# EAGLE library part LRTB_GVTG-U5V5-1 (library issi)
Osram LRTB GVTG RGB MULTILED Source: http://www.osram-os.com/Graphics/XPic9/00155765_0.pdf/LRTB%20GVTG%20-%20MULTILED.pdf
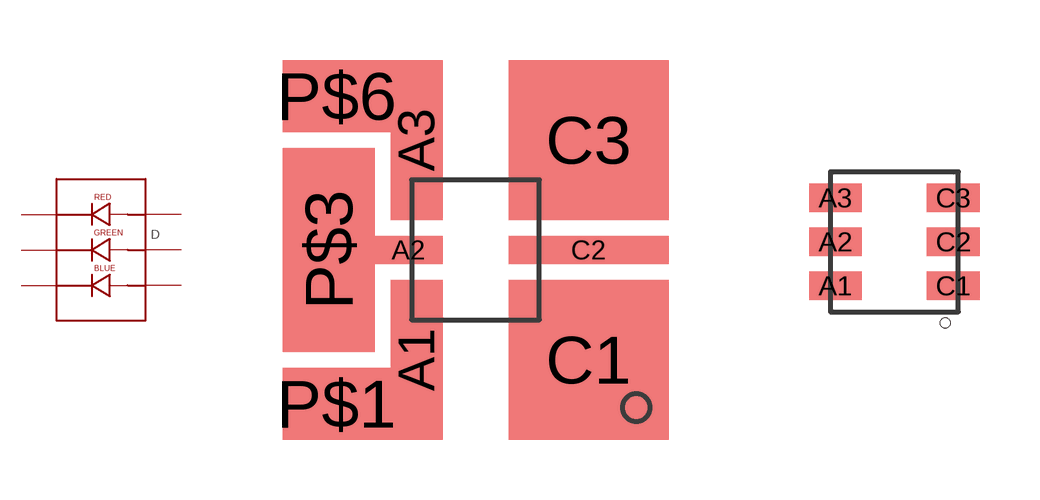
[diagram p0: symbol with the pads of LPCC6; footprints LPCC6, LPCC6SMALL]

Designator prefix D

## LRTB_GVTG-U5V5-1LPCC6  [LPCC6]
A1  BLUE_ANODE
A2  GREEN_ANODE
A3  RED_ANODE
C1  BLUE_CATHODE
C2  GREEN_CATHODE
C3  RED_CATHODE

## LRTB_GVTG-U5V5-1LPCC6SMALL  [LPCC6SMALL]
Pads as for LPCC6

## Footprint LPCC6 (pad centres in mm)
LPCC6 TOPLED
smd 1.3 x 4: A1 3.35,2; A3 3.35,7.5
smd 1.7 x 0.7: A2 3.15,4.75
smd 4 x 4: C1 7.65,2; C3 7.65,7.5
smd 4 x 0.7: C2 7.65,4.75
smd 2.7 x 1.8: P$1 1.35,0.9; P$6 1.35,8.6
smd 2.3 x 5.1: P$3 1.15,4.75

## Footprint LPCC6SMALL (pad centres in mm)
LPCC6 for OSRAM LRTB GVTG MULTILED Source: http://www.osram-os.com/Graphics/XPic6/00090269_0.pdf/LRTB%20GVTG%20-%20MULTILED.pdf%20
smd 1.321 x 0.711: A1 -1.473,-1.1; A2 -1.473,0; A3 -1.473,1.1; C1 1.473,-1.1; C2 1.473,0; C3 1.473,1.1